# Altium schematic symbol library Passive_Device.SchLib: 11 symbols
Pins are listed as number, name and electrical type; pins without a type are passive.

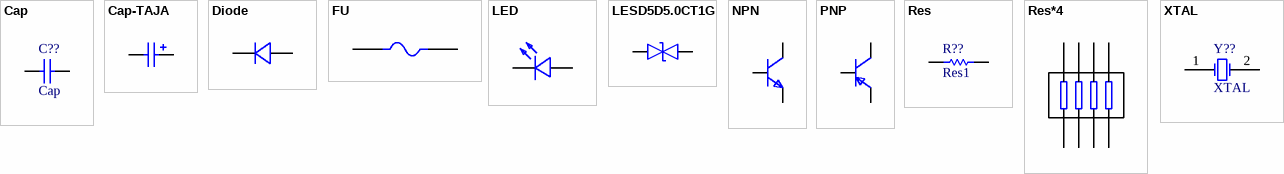
[diagram p0: symbols Cap to XTAL]

## Cap
designator C??
无极性贴片电容; Published: 8-Jun-2000; LatestRevisionDate: 17-Jul-2002; LatestRevisionNote: Re-released for DXP Platform.; PackageReference: RAD-0.3; Publisher: Altium Limited; PackageDescription: Radial Cap, Thru-Hole; 2 Leads; 0.3 in Pin Spacing
footprint RAD-0.3 (Radial Cap, Thru-Hole; 2 Leads; 0.3 in Pin Spacing)
simulation model CAP (Capacitor)
signal-integrity model Cap
pins: 1, 2

## Cap-TAJA
designator C??, comment TAJA106K016RNJ  (value not drawn)
贴片钽电容; Manufacturer: Kyocera AVX; Name: 10uF; Add into BOM: yes; Value: 10uF; Tolerance: ±10%; Rated Voltage: 16V; Equivalent Series Resistance(ESR): 3Ω@100kHz; Symbol: TAJA106K016RNJ; Device: TAJA106K016RNJ; LCSC Part Name: 10uF ±10% 16V; Supplier Part: C7171; Manufacturer Part: TAJA106K016RNJ; Supplier Footprint: CASE-A-3216; JLCPCB Part Class: Basic Part; Datasheet: https://atta.szlcsc.com/upload/public/pdf/source/20160107/1457707748093.pdf; Supplier: LCSC; Convert to PCB: yes; Operating Temperature: -55℃~+125℃
footprint CAP-SMD_L3.2-W1.6-RD-C7171
3D model CASE-A_L3.2-W1.6-H1.6
pins: 1, 2

## Diode
designator D??  (value not drawn)
二极管1N4001; Manufacturer: TWGMC(台湾迪嘉); Name: 1N4001; Symbol: 1N4001_C727079; Add into BOM: yes; Diode Configuration: 独立式; Reverse Voltage (Vr): 50V; Average Rectified Current (Io): 1A; Forward Voltage (Vf@If): 1.1V@1A; Reverse Leakage Current: 5uA@50V; Device: 1N4001_C727079; LCSC Part Name: 50V 1A 1.1V@1A; Supplier Part: C727079; Manufacturer Part: 1N4001; Supplier Footprint: SMA(DO-214AC); JLCPCB Part Class: Extended Part; Datasheet: https://atta.szlcsc.com/upload/public/pdf/source/20200828/C727079_3A05254382567072883400655AE0ED46.pdf; Supplier: LCSC; Convert to PCB: yes
footprint SMA_L4.3-W2.5-LS5.0-RD
3D model SMA_L4.3-W2.5-LS5.0-RD
pins: 1 K, 2 A

## FU
designator F??, comment FUSE 1A  (value not drawn)
贴片保险丝; Manufacturer: RUILON(瑞隆源); Name: SMD0805P075TF; Device: SMD0805P075TF_C20979; Add into BOM: yes; Operating Voltage (Max): 6V; Current Rating (Max): 40A; Hold Current: 750mA; Trip Current: 1.5A; Symbol: SMD0805P075TF; LCSC Part Name: 6V 750mA 0805自恢复; Supplier Part: C20979; Manufacturer Part: SMD0805P075TF; Supplier Footprint: 0805; JLCPCB Part Class: Extended Part; Datasheet: https://atta.szlcsc.com/upload/public/pdf/source/20140222/1457706788789.pdf; Supplier: LCSC; Convert to PCB: yes
footprint F0805
3D model F0805_L2.1-W1.4-H0.8
pins: 1, 2

## LED
designator LED??  (value not drawn)
LED灯; Manufacturer: 国星光电; Name: NCD0603G2; Symbol: FC-1608UGK-520D; Add into BOM: yes; Emitted Color: 翠绿; Device: NCD0603G2; LCSC Part Name: 翠绿; Supplier Part: C87326; Manufacturer Part: NCD0603G2; Supplier Footprint: 0603; JLCPCB Part Class: Extended Part; Datasheet: https://atta.szlcsc.com/upload/public/pdf/source/20200820/C87326_434E337B13CFAB9A1423E0838CFDDDAC.pdf; Supplier: LCSC; Convert to PCB: yes
footprint LED0603-RD
3D model LED0603-RD (PCB3D Model)
pins: 1 K, 2 A

## LESD5D5.0CT1G
designator ?  (value not drawn)
静电放电(ESD)保护器件; Designer: U?; Symbol: LESD5D5.0CT1G; Device: LESD5D5.0CT1G
pins: 1, 2

## NPN
designator Q??  (value not drawn)
NPN三极管SS8050; Manufacturer: CJ(江苏长电/长晶); Name: SS8050-G; Symbol: SS8050-G_C164885; Add into BOM: yes; Collector-Emitter Breakdown Voltage (Vceo): 25V; Collector Current (Ic): 1.5A; Power Dissipation (Pd): 300mW; Collector Cut-Off Current (Icbo): 100nA; Collector-Emitter Saturation Voltage (VCE(sat)@Ic,Ib): 500mV@800mA,80mA; DC Current Gain (hFE@Ic,Vce): 200@100mA,1V; Transition Frequency (fT): 100MHz; Device: SS8050-G; LCSC Part Name: NPN 25V 1.5A H档(200-350); Supplier Part: C164885; Manufacturer Part: SS8050-G; Supplier Footprint: SOT-23; JLCPCB Part Class: Extended Part; Datasheet: https://atta.szlcsc.com/upload/public/pdf/source/20171228/C164885_15144412871481213889.pdf; Supplier: LCSC; Convert to PCB: yes; Transistor Type: NPN; Operating Temperature: +150℃@(Tj)
footprint SOT-23-3_L2.9-W1.3-P1.90-LS2.4-BR
3D model SOT-23-3P_L2.9-W1.3-H1.0-LS2.4-P0.95
pins: 1 B, 2 E, 3 C

## PNP
designator Q??  (value not drawn)
PNP三极管SS8550; Manufacturer: CJ(江苏长电/长晶); Name: S8550; Symbol: S8550_C105432; Add into BOM: yes; Collector-Emitter Breakdown Voltage (Vceo): 25V; Collector Current (Ic): 500mA; Power Dissipation (Pd): 300mW; Collector Cut-Off Current (Icbo): 100nA; Collector-Emitter Saturation Voltage (VCE(sat)@Ic,Ib): 600mV@500mA,50mA; DC Current Gain (hFE@Ic,Vce): 120@50mA,1V; Transition Frequency (fT): 150MHz; Device: S8550_C105432; LCSC Part Name: PNP 25V 500mA L档120-200; Supplier Part: C105432; Manufacturer Part: S8550; Supplier Footprint: SOT-23; JLCPCB Part Class: Basic Part; Datasheet: https://atta.szlcsc.com/upload/public/pdf/source/20170413/1492062713649.pdf; Supplier: LCSC; Convert to PCB: yes; Transistor Type: PNP; Operating Temperature: +150℃@(Tj)
footprint SOT-23-3_L2.9-W1.6-P1.90-LS2.8-BR
3D model SOT-23-3L_L2.9-W1.6-H1.1-LS2.8-P0.95
pins: 1, 2, 3

## Res
designator R??, comment Res1
贴片电阻; Published: 8-Jun-2000; LatestRevisionDate: 17-Jul-2002; LatestRevisionNote: Re-released for DXP Platform.; PackageReference: AXIAL-0.3; Publisher: Altium Limited; PackageDescription: Axial Device, Thru-Hole; 2 Leads; 0.3 in Pin Spacing
footprint R0603
simulation model RESISTOR (Resistor)
signal-integrity model Res
pins: 1, 2

## Res*4
designator RN??  (value not drawn)
贴片排阻*4; Manufacturer: FH(风华); Name: 10kΩ; Symbol: RC-ML08W103JT; Add into BOM: yes; Value: 10kΩ; Tolerance: ±5%; Power(Watts): 62.5mW; Number of Resistors: 4; Temperature Coefficient: ±100ppm/℃; Device: RC-ML08W103JT; LCSC Part Name: 10kΩ ±5%; Supplier Part: C69593; Manufacturer Part: RC-ML08W103JT; Supplier Footprint: 0603x4; JLCPCB Part Class: Extended Part; Datasheet: https://atta.szlcsc.com/upload/public/pdf/source/20171225/C69593_15141884772841203313.pdf; Supplier: LCSC; Convert to PCB: yes; Number of Pins: 8
3D model R0603-8P_L3.2-W1.6-H0.6
footprint RES-ARRAY-SMD_0603-8P-L3.2-W1.6-BL
pins: 1, 2, 3, 4, 5, 6, 7, 8

## XTAL
designator Y??
晶振; Published: 8-Jun-2000; LatestRevisionDate: 17-Jul-2002; LatestRevisionNote: Re-released for DXP Platform.; PackageReference: R38; Publisher: Altium Limited; PackageDescription: Crystal, Thru-Hole; 2 Leads; Body 3.1 x 8.2 mm (Dia.xH)
simulation model XTAL (Spice Subcircuit)
pins: 1 OSC1, 2 OSC2